# EAGLE library part LTC3526 (library Ava)
Linear LTC3526 http://cds.linear.com/docs/en/datasheet/3526bfd.pdf Anthony Stirk March 2014
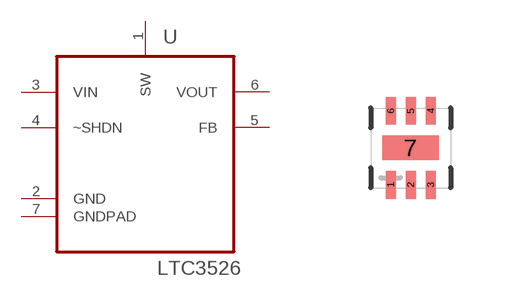
[diagram p33: symbol with the pads of LTC_DWG_05-08-1703_REV_B; footprint LTC_DWG_05-08-1703_REV_B]

Designator prefix -

## LTC3526  [LTC_DWG_05-08-1703_REV_B]
1  SW  in
2  GND  pas
3  VIN  pwr
4  ~SHDN  pas
5  FB  in
6  VOUT  out
7  GNDPAD  pas

## Footprint LTC_DWG_05-08-1703_REV_B (pad centres in mm)
smd 0.25 x 0.7: 1 -0.5,-0.925; 2 0,-0.925; 3 0.5,-0.925; 4 0.5,0.925; 5 0,0.925; 6 -0.5,0.925
smd 1.42 x 0.61: 7 0,0